# EAGLE library part CMX901 (library CMX901)
Broadband Efficient RF Power Amplifier
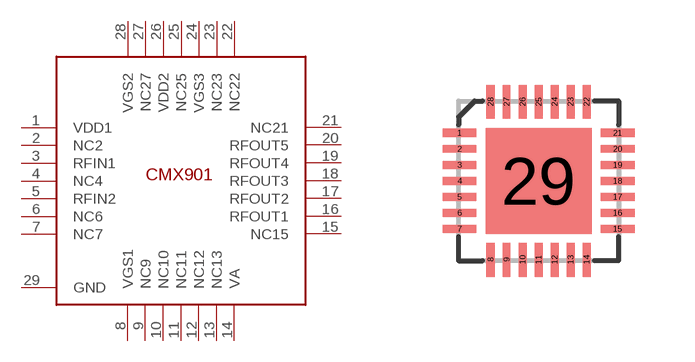
[diagram p0: symbol with the pads of QFN-28; footprint QFN-28]

Designator prefix -

## CMX901  [QFN-28]
1  VDD1
2  NC2
3  RFIN1
4  NC4
5  RFIN2
6  NC6
7  NC7
8  VGS1
9  NC9
10  NC10
11  NC11
12  NC12
13  NC13
14  VA
15  NC15
16  RFOUT1
17  RFOUT2
18  RFOUT3
19  RFOUT4
20  RFOUT5
21  NC21
22  NC22
23  NC23
24  VGS3
25  NC25
26  VDD2
27  NC27
28  VGS2
29  GND

## Footprint QFN-28 (pad centres in mm)
smd 0.85 x 0.2: 1 -1.975,1.2; 2 -1.975,0.8; 3 -1.975,0.4; 4 -1.975,0; 5 -1.975,-0.4; 6 -1.975,-0.8; 7 -1.975,-1.2; 15 1.975,-1.2; 16 1.975,-0.8; 17 1.975,-0.4; 18 1.975,0; 19 1.975,0.4; 20 1.975,0.8; 21 1.975,1.2
smd 0.2 x 0.85: 8 -1.2,-1.975; 9 -0.8,-1.975; 10 -0.4,-1.975; 11 0,-1.975; 12 0.4,-1.975; 13 0.8,-1.975; 14 1.2,-1.975; 22 1.2,1.975; 23 0.8,1.975; 24 0.4,1.975; 25 0,1.975; 26 -0.4,1.975; 27 -0.8,1.975; 28 -1.2,1.975
smd 2.65 x 2.65: 29 0,0